# EAGLE library part TDSR1050 (library OPTO)
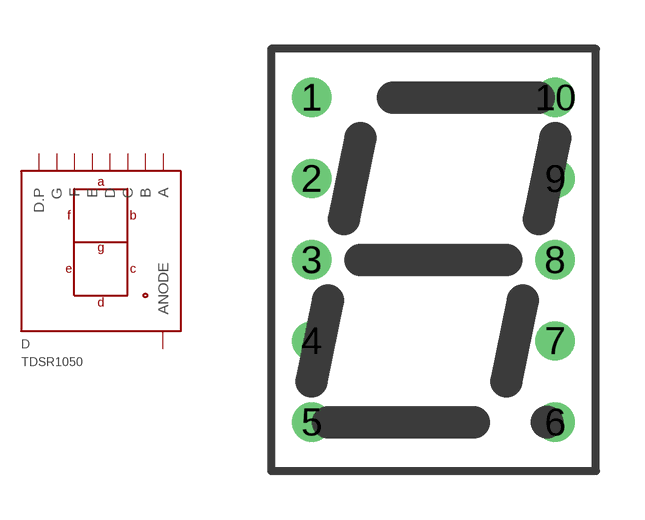
[diagram p0: symbol with the pads of TDSR10; footprint TDSR10]

Designator prefix D

## TDSR1050  [TDSR10]
1  G
2  F
3  ANODE
4  E
5  D
6  D.P
7  C
8  ANODE
9  B
10  A

## Footprint TDSR10 (pad centres in mm)
drill 0.7: 1 -3.75,5; 2 -3.75,2.5; 3 -3.75,0; 4 -3.75,-2.5; 5 -3.75,-5; 6 3.75,-5; 7 3.75,-2.5; 8 3.75,0; 9 3.75,2.5; 10 3.75,5